# Altium schematic symbol library neutrik-connectors.SchLib: 1 symbol
Pins are listed as number, name and electrical type; pins without a type are passive.

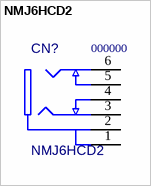
[diagram p0: symbol NMJ6HCD2]

## NMJ6HCD2
designator CN?, comment 000000  value NMJ6HCD2
Jack 1/4" Stereo Switched; MF: Neutrik; PN: 000000; ExtraInfo: *; MF PN: NMJ6HCD2; Package: PTH; Price: *; DigiKey PN: *
signal-integrity model Connector
footprint NMJ6HCD2 (Jack 1/4" stereo)
pins: 1 (power), 2 (power), 3 (power), 4 (power), 5 (power), 6 (power)